# Altium footprint library D16_L25mm_P7.5mm_CAP_THT.PcbLib: 1 footprints
Each footprint in its own frame and in the unit in brackets; x right, y up, seen from the top. Pads: shape width x height; smd on the part's side, far side on the other; paste and mask are expansions set on the pad; w line width, h text height; cw(c..) or ccw(c..) is an arc to the next point about the centre after c.
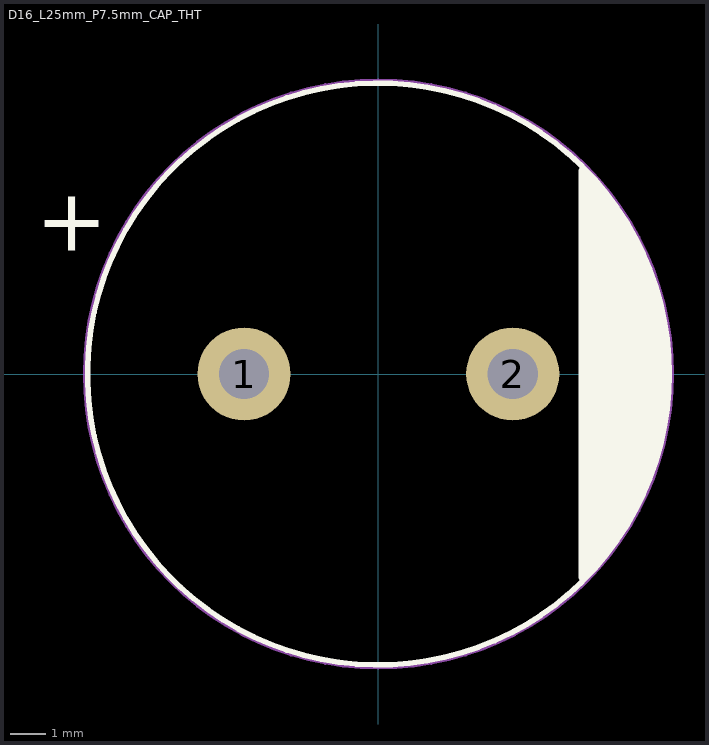
[diagram p0: the footprint, top view; thin cyan lines are the x and y axes]

## D16_L25mm_P7.5mm_CAP_THT [mm] "D16_L25mm_P7.5mm_CAP_THT"
pads (2):
  round 2.6 hole 1.4: 1(-3.75,0) 2(3.75,0)
Top Overlay:
  circle w0.15: c0,0 r8.12
  region: 5.68,-5.68 5.959,-5.401 6.459,-4.791 6.898,-4.134 7.27,-3.438 7.572,-2.709 7.801,-1.954 7.955,-1.18 8.032,-0.395 8.032,0.395 7.955,1.18 7.801,1.954 7.572,2.709 7.27,3.438 6.898,4.134 6.459,4.791 5.959,5.401 5.68,5.68
  lines w0.2: 5.68,-5.68 ccw(c0,0) 5.68,5.68 5.68,-5.68
  text "+" at -9.562,2.867 h3
Mechanical 1:
  circle w0.1: c0,0 r8.2
  text ".Designator" at 0,0.376 h2
Mechanical 15:
  text "+" at -1,-1.5 h3
3D body "Aluminum_electrolytic_capacitor_radial_D16_H25_PinD0.8_Pitch7.5_nominal_black.step": height 25, standoff -3, extent -8,-7.998 7.989,7.998